# Altium schematic symbol library P18F97J94-TQFP100.SchLib: 1 symbol
Pins are listed as number, name and electrical type; pins without a type are passive.

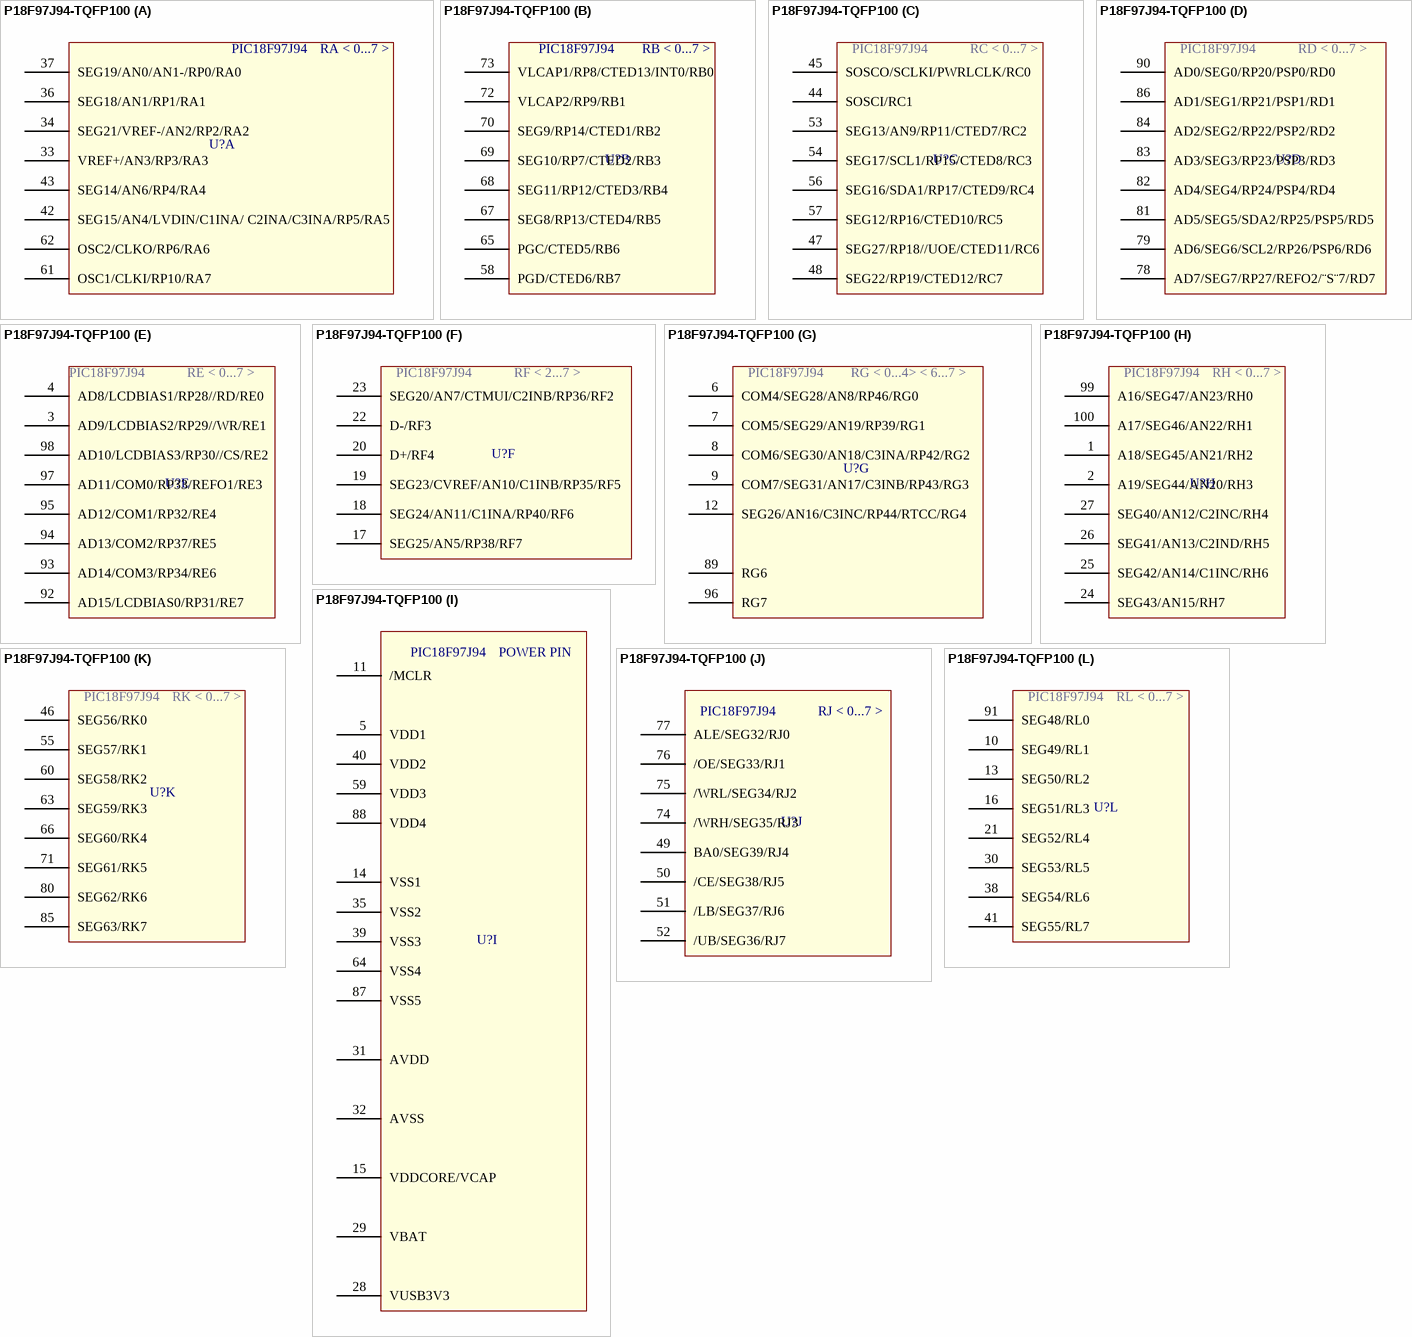
[diagram p0: symbol P18F97J94-TQFP100]

## P18F97J94-TQFP100
designator U?  (value not drawn)
P18F97J94-TQFP100
part A pins: 33 VREF+/AN3/RP3/RA3, 34 SEG21/VREF-/AN2/RP2/RA2, 36 SEG18/AN1/RP1/RA1, 37 SEG19/AN0/AN1-/RP0/RA0, 42 SEG15/AN4/LVDIN/C1INA/ C2INA/C3INA/RP5/RA5, 43 SEG14/AN6/RP4/RA4, 61 OSC1/CLKI/RP10/RA7, 62 OSC2/CLKO/RP6/RA6
part B pins: 58 PGD/CTED6/RB7, 65 PGC/CTED5/RB6, 67 SEG8/RP13/CTED4/RB5, 68 SEG11/RP12/CTED3/RB4, 69 SEG10/RP7/CTED2/RB3, 70 SEG9/RP14/CTED1/RB2, 72 VLCAP2/RP9/RB1, 73 VLCAP1/RP8/CTED13/INT0/RB0
part C pins: 44 SOSCI/RC1, 45 SOSCO/SCLKI/PWRLCLK/RC0, 47 SEG27/RP18//UOE/CTED11/RC6, 48 SEG22/RP19/CTED12/RC7, 53 SEG13/AN9/RP11/CTED7/RC2, 54 SEG17/SCL1/RP15/CTED8/RC3, 56 SEG16/SDA1/RP17/CTED9/RC4, 57 SEG12/RP16/CTED10/RC5
part D pins: 78 AD7/SEG7/RP27/REFO2/¨S¨7/RD7, 79 AD6/SEG6/SCL2/RP26/PSP6/RD6, 81 AD5/SEG5/SDA2/RP25/PSP5/RD5, 82 AD4/SEG4/RP24/PSP4/RD4, 83 AD3/SEG3/RP23/PSP3/RD3, 84 AD2/SEG2/RP22/PSP2/RD2, 86 AD1/SEG1/RP21/PSP1/RD1, 90 AD0/SEG0/RP20/PSP0/RD0
part E pins: 3 AD9/LCDBIAS2/RP29//WR/RE1, 4 AD8/LCDBIAS1/RP28//RD/RE0, 92 AD15/LCDBIAS0/RP31/RE7, 93 AD14/COM3/RP34/RE6, 94 AD13/COM2/RP37/RE5, 95 AD12/COM1/RP32/RE4, 97 AD11/COM0/RP33/REFO1/RE3, 98 AD10/LCDBIAS3/RP30//CS/RE2
part F pins: 17 SEG25/AN5/RP38/RF7, 18 SEG24/AN11/C1INA/RP40/RF6, 19 SEG23/CVREF/AN10/C1INB/RP35/RF5, 20 D+/RF4, 22 D-/RF3, 23 SEG20/AN7/CTMUI/C2INB/RP36/RF2
part G pins: 6 COM4/SEG28/AN8/RP46/RG0, 7 COM5/SEG29/AN19/RP39/RG1, 8 COM6/SEG30/AN18/C3INA/RP42/RG2, 9 COM7/SEG31/AN17/C3INB/RP43/RG3, 12 SEG26/AN16/C3INC/RP44/RTCC/RG4, 89 RG6, 96 RG7
part H pins: 1 A18/SEG45/AN21/RH2, 2 A19/SEG44/AN20/RH3, 24 SEG43/AN15/RH7, 25 SEG42/AN14/C1INC/RH6, 26 SEG41/AN13/C2IND/RH5, 27 SEG40/AN12/C2INC/RH4, 99 A16/SEG47/AN23/RH0, 100 A17/SEG46/AN22/RH1
part I pins: 5 VDD1, 11 /MCLR, 14 VSS1, 15 VDDCORE/VCAP, 28 VUSB3V3, 29 VBAT, 31 AVDD, 32 AVSS, 35 VSS2, 39 VSS3, 40 VDD2, 59 VDD3, 64 VSS4, 87 VSS5, 88 VDD4
part J pins: 49 BA0/SEG39/RJ4, 50 /CE/SEG38/RJ5, 51 /LB/SEG37/RJ6, 52 /UB/SEG36/RJ7, 74 /WRH/SEG35/RJ3, 75 /WRL/SEG34/RJ2, 76 /OE/SEG33/RJ1, 77 ALE/SEG32/RJ0
part K pins: 46 SEG56/RK0, 55 SEG57/RK1, 60 SEG58/RK2, 63 SEG59/RK3, 66 SEG60/RK4, 71 SEG61/RK5, 80 SEG62/RK6, 85 SEG63/RK7
part L pins: 10 SEG49/RL1, 13 SEG50/RL2, 16 SEG51/RL3, 21 SEG52/RL4, 30 SEG53/RL5, 38 SEG54/RL6, 41 SEG55/RL7, 91 SEG48/RL0
part A text: PIC18F97J94; RA < 0...7 >
part B text: PIC18F97J94; RB < 0...7 >
part C text: PIC18F97J94; RC < 0...7 >
part D text: PIC18F97J94; RD < 0...7 >
part E text: PIC18F97J94; RE < 0...7 >
part F text: PIC18F97J94; RF < 2...7 >
part G text: PIC18F97J94; RG < 0...4> < 6...7 >
part H text: PIC18F97J94; RH < 0...7 >
part I text: PIC18F97J94; POWER PIN
part J text: PIC18F97J94; RJ < 0...7 >
part K text: PIC18F97J94; RK < 0...7 >
part L text: PIC18F97J94; RL < 0...7 >